# EAGLE library part USB-B-SMD-FLAT-SIDE (library USB Connector)
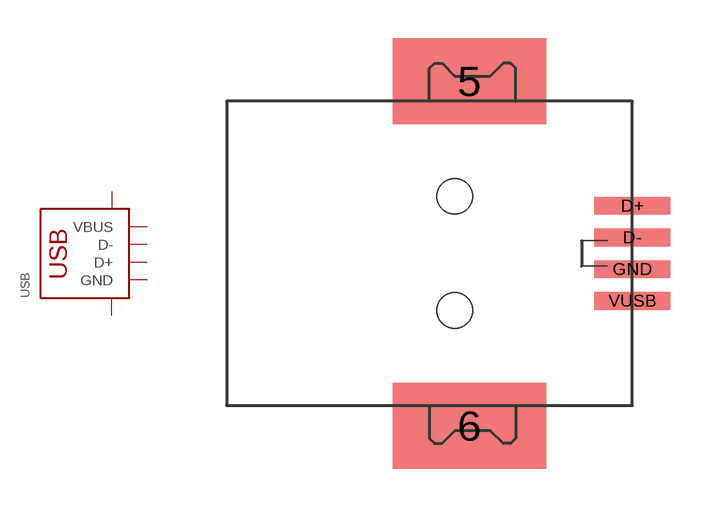
[diagram p7: symbol with the pads of USB-B-SMD-FLAT-SIDE; footprint USB-B-SMD-FLAT-SIDE]

Designator prefix USB

## USB-B-SMD-FLAT-SIDE  [USB-B-SMD-FLAT-SIDE]
5  SHIELD
6  SHIELD
D+  D+
D-  D-
GND  GND
VUSB  VBUS

## Footprint USB-B-SMD-FLAT-SIDE (pad centres in mm)
USB Series B Surface Mounted
smd 6.04 x 3.4: 5 0.58,6.8; 6 0.58,-6.8
smd 3 x 0.7: D+ 7,1.875; D- 7,0.625; GND 7,-0.625; VUSB 7,-1.875
hole 1.4 at 0,2.25
hole 1.4 at 0,-2.25